# Altium schematic symbol library 1SMB5956BT3.Schlib: 1 symbol
Pins are listed as number, name and electrical type; pins without a type are passive.

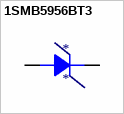
[diagram p0: symbol 1SMB5956BT3]

## 1SMB5956BT3
designator *
pins: 1 A, 2 K